# EAGLE library part KM684002A (library memory-samsung)
MEMORY
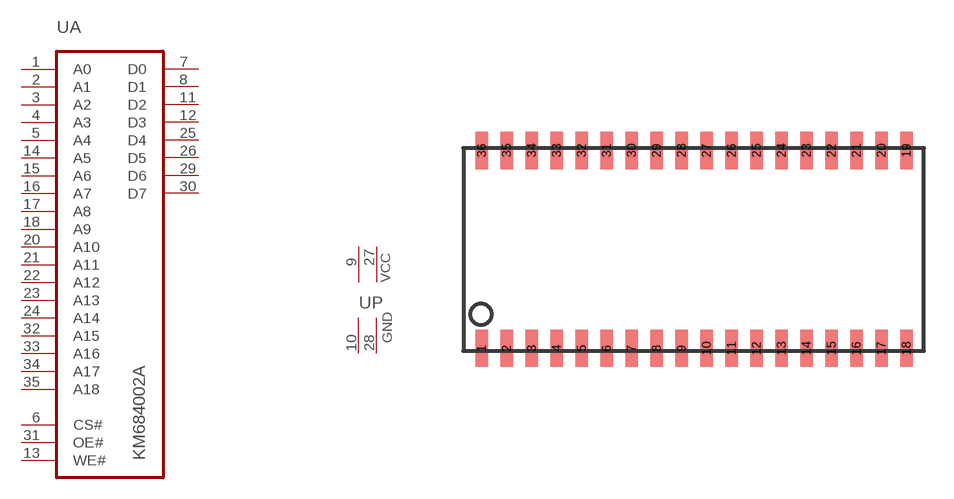
[diagram p0: symbol with the pads of SOJ36-4; footprint SOJ36-4]

Designator prefix U; gates A=KM684002 P=P

## KM684002A  [SOJ36-4]
1  A:A0  in
2  A:A1  in
3  A:A2  in
4  A:A3  in
5  A:A4  in
6  A:CS#  in
7  A:D0  hiz
8  A:D1  hiz
9  P:VCC  pwr
10  P:GND  pwr
11  A:D2  hiz
12  A:D3  hiz
13  A:WE#  in
14  A:A5  in
15  A:A6  in
16  A:A7  in
17  A:A8  in
18  A:A9  in
19  A:NC  nc
20  A:A10  in
21  A:A11  in
22  A:A12  in
23  A:A13  in
24  A:A14  in
25  A:D4  hiz
26  A:D5  hiz
27  P:VCC  pwr
28  P:GND  pwr
29  A:D6  hiz
30  A:D7  hiz
31  A:OE#  in
32  A:A15  in
33  A:A16  in
34  A:A17  in
35  A:A18  in
36  A:NC1  nc

## Footprint SOJ36-4 (pad centres in mm)
Small Outline J-Bend
smd 0.635 x 1.905: 1 -10.16,-5.029; 2 -8.89,-5.029; 3 -7.62,-5.029; 4 -6.35,-5.029; 5 -5.08,-5.029; 6 -3.81,-5.029; 7 -2.54,-5.029; 8 -1.27,-5.029; 9 0,-5.029; 10 1.27,-5.029; 11 2.54,-5.029; 12 3.81,-5.029; 13 5.08,-5.029; 14 6.35,-5.029; 15 7.62,-5.029; 16 8.89,-5.029; 17 10.16,-5.029; 18 11.43,-5.029; 19 11.43,5.029; 20 10.16,5.029; 21 8.89,5.029; 22 7.62,5.029; 23 6.35,5.029; 24 5.08,5.029; 25 3.81,5.029; 26 2.54,5.029; 27 1.27,5.029; 28 0,5.029; 29 -1.27,5.029; 30 -2.54,5.029; 31 -3.81,5.029; 32 -5.08,5.029; 33 -6.35,5.029; 34 -7.62,5.029; 35 -8.89,5.029; 36 -10.16,5.029